# Altium schematic symbol library Opto.SchLib: 1 symbol
Pins are listed as number, name and electrical type; pins without a type are passive.

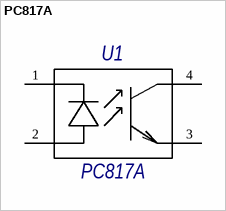
[diagram p0: symbol PC817A]

## PC817A
designator U1, comment PartNumber: PC817A  (hidden comment: Микросхема PC817A фирма "Sharp")
4-Pin Phototransistor Optocoupler; GOST: Микросхема PC817A фирма "Sharp"
footprint DIP4-7.62-2.54 (DIP; 4 Leads; Row Spacing 7.62 mm; Pitch 2.54 mm)
pins: 1 A, 2 K, 3 E, 4 C